# EAGLE library part JST_ZH_6PIN (library ORBiT-con-JST)
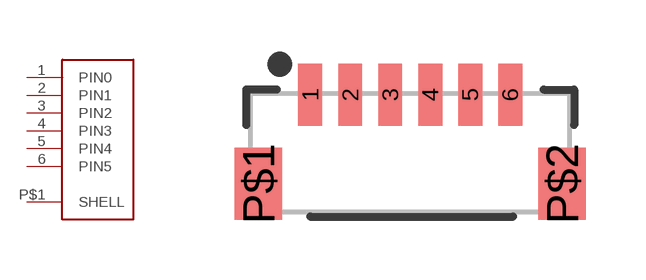
[diagram p0: symbol with the pads of JST_ZH_6PIN; footprint JST_ZH_6PIN]

Designator prefix -

## JST_ZH_6PIN  [JST_ZH_6PIN]
1  PIN0
2  PIN1
3  PIN2
4  PIN3
5  PIN4
6  PIN5
P$1  SHELL

## Footprint JST_ZH_6PIN (pad centres in mm)
6-Pin Vertical JST Connector 1.0mm pitch JST-SH type Common interface for SparkFun GPS modules. Datasheet <http://www.sparkfun.com/datasheets/GPS/EM406-SMDConnector-eSH.pdf>
smd 0.6 x 1.55: 1 -2.5,1.45; 2 -1.5,1.45; 3 -0.5,1.45; 4 0.5,1.45; 5 1.5,1.45; 6 2.5,1.45
smd 1.2 x 1.8: P$1 -3.8,-0.775; P$2 3.8,-0.775